# EAGLE library part LT1468 (library LT1468)
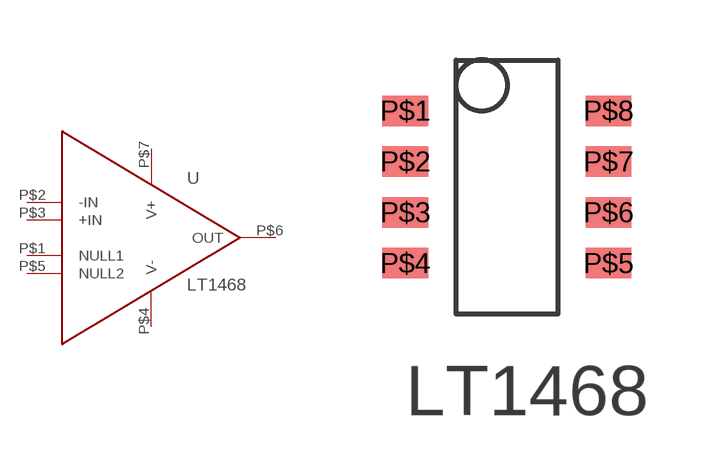
[diagram p0: symbol with the pads of SOIC-8; footprint SOIC-8]

Designator prefix -

## LT1468  [SOIC-8]
P$1  NULL1
P$2  -IN
P$3  +IN
P$4  V-
P$5  NULL2
P$6  OUT
P$7  V+

## Footprint SOIC-8 (pad centres in mm)
smd 1.143 x 0.762: P$1 -2.54,1.27; P$2 -2.54,0; P$3 -2.54,-1.27; P$4 -2.54,-2.54; P$5 2.54,-2.54; P$6 2.54,-1.27; P$7 2.54,0; P$8 2.54,1.27